# Altium footprint library SuperCapacitors.PcbLib: 2 footprints
Each footprint in its own frame and in the unit in brackets; x right, y up, seen from the top. Pads: shape width x height; smd on the part's side, far side on the other; paste and mask are expansions set on the pad; w line width, h text height; cw(c..) or ccw(c..) is an arc to the next point about the centre after c.
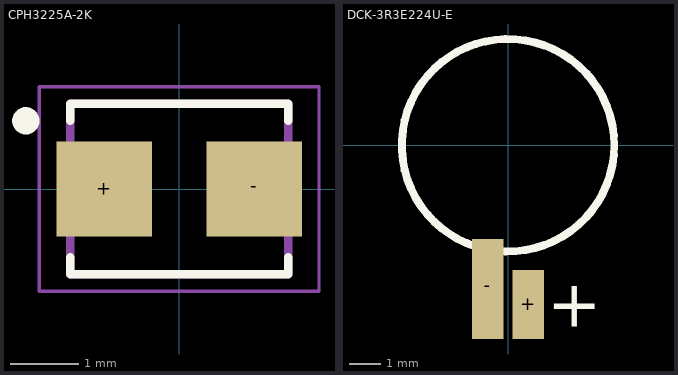
[diagram p0: the footprints below, top view; thin cyan lines are the x and y axes]

## CPH3225A-2K [mm]
pads (2):
  rect 1.4x1.4 smd: +(-1.1,0) -(1.1,0)
Top Overlay:
  circle w0.2: c-2.25,1 r0.1
  lines w0.127: -1.6,-1 -1.6,-1.25 1.6,-1.25 1.6,-1 ; -1.6,1 -1.6,1.25 1.6,1.25 1.6,1
Mechanical 4:
  lines w0.127: -1.6,-1.25 1.6,-1.25 ; -1.6,-1.25 -1.6,1.25 ; -1.6,-1.25 1.6,-1.25 ; -1.6,-1.25 -1.6,1.25 ; -1.6,1.25 1.6,1.25 ; -1.6,1.25 1.6,1.25 ; 1.6,-1.25 1.6,1.25 ; 1.6,-1.25 1.6,1.25
Mechanical 16:
  lines w0.05: -2.05,-1.5 2.05,-1.5 2.05,1.5 -2.05,1.5 -2.05,-1.5
3D body "CPH3225A--3DModel-STEP-56544.STEP": height 1, standoff 0, extent -1.6,-1.25 1.6,1.25

## DCK-3R3E224U-E [mm] "SuperCap"
pads (2):
  rect 1x2.2 smd: +(0.65,-5.1)
  rect 1x3.2 smd: -(-0.65,-4.6)
Top Overlay:
  circle w0.254: c0,0 r3.4
  text "+" at 1.25,-5.8 h1.52
3D body: height 0.15, standoff 0, extent 0.425,-5.775 0.875,-4.2
3D body: height 1.65, standoff 0.15, extent -3.4,-3.4 3.4,3.4
3D body: height 0.15, standoff 0, extent -0.875,-5.75 0.875,1
3D body: height 1.8, standoff 1.65, extent -0.875,-4.05 0.875,1
3D body: height 1.8, standoff 0, extent 0,-4.2 0.875,-4.05
3D body: height 1.85, standoff 0, extent -0.297,-0.299 0.3,0.3
3D body: height 1.85, standoff 0, extent -0.298,-2.674 0.3,-2.075